# Altium footprint library Michel.PcbLib: 49 footprints (part 2 of 4)
Each footprint in its own frame and in the unit in brackets; x right, y up, seen from the top. Pads: shape width x height; smd on the part's side, far side on the other; paste and mask are expansions set on the pad; w line width, h text height; cw(c..) or ccw(c..) is an arc to the next point about the centre after c.
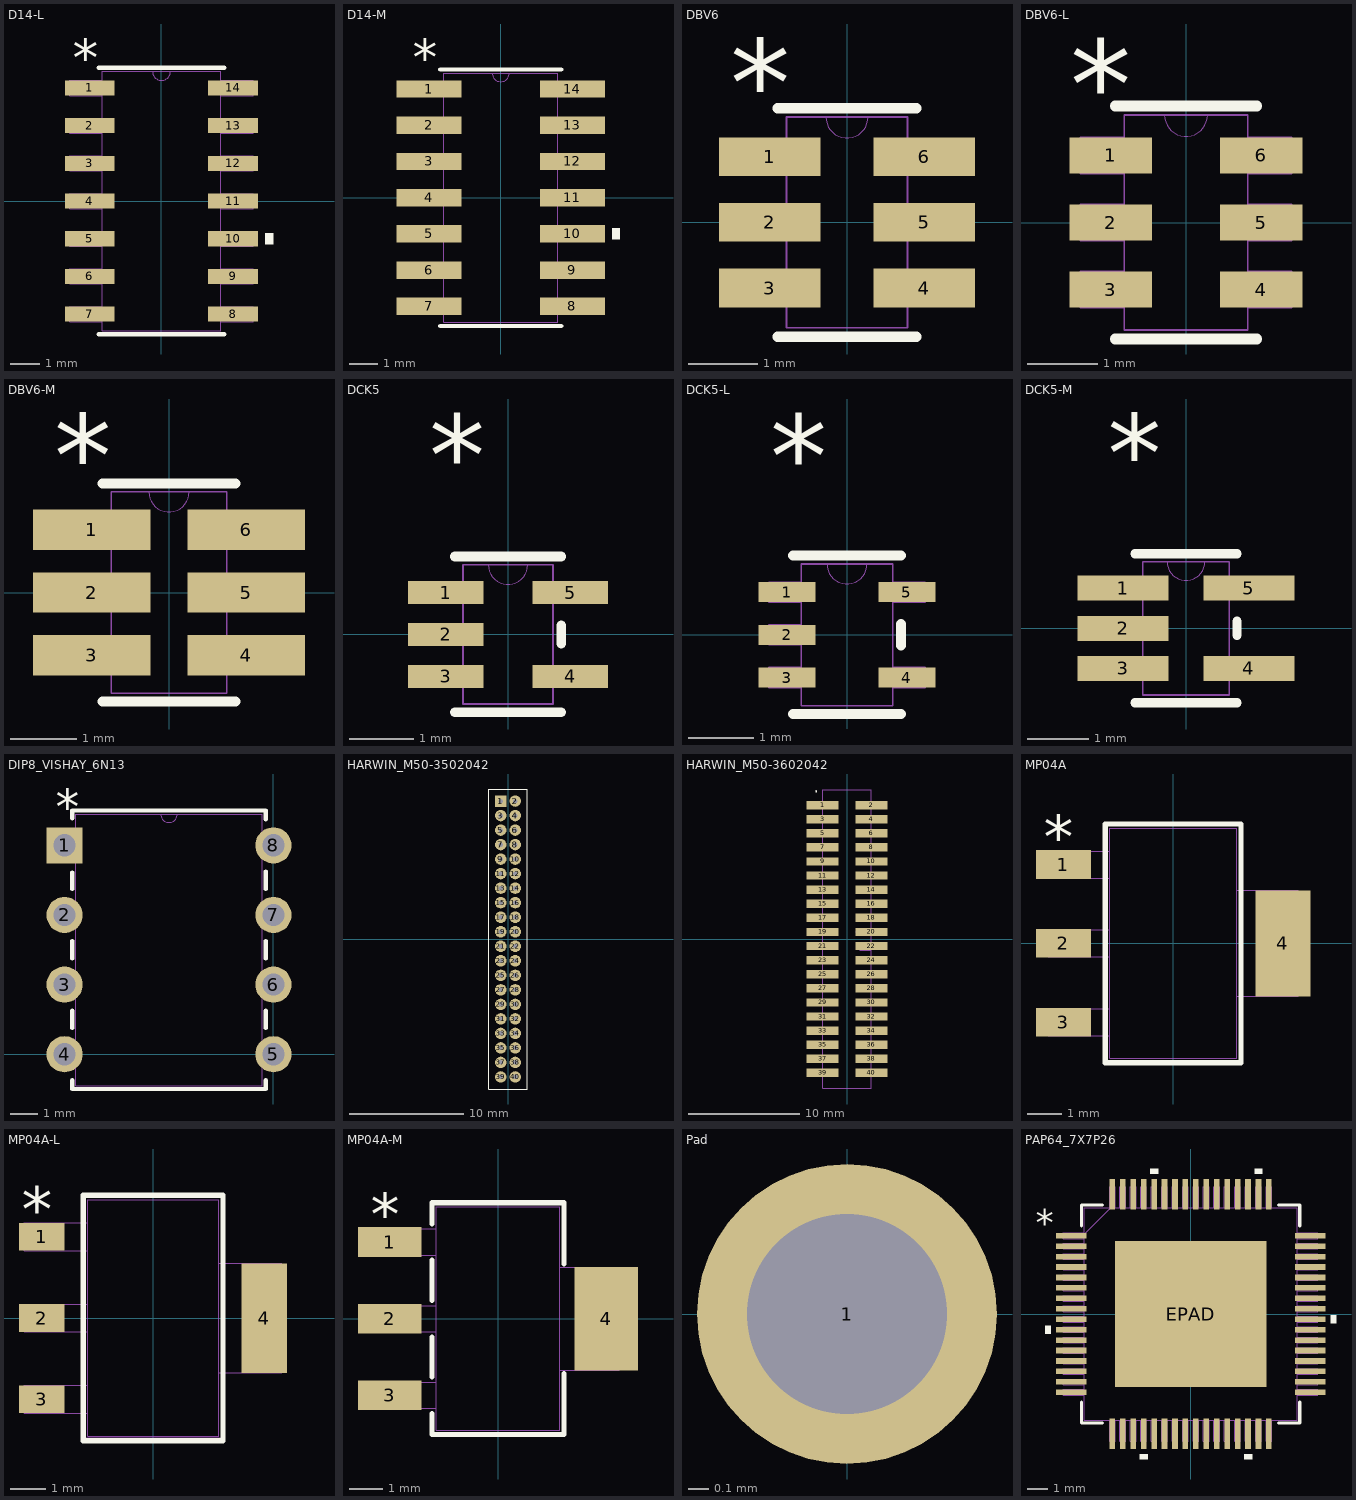
[diagram p1: the footprints below, top view; thin cyan lines are the x and y axes]

## D14-L [mil]
pads (14):
  rect 66x20 smd paste+0 mask+0: 1(-95,150) 2(-95,100) 3(-95,50) 4(-95,0) 5(-95,-50) 6(-95,-100) 7(-95,-150) 8(95,-150) 9(95,-100) 10(95,-50) 11(95,0) 12(95,50) 13(95,100) 14(95,150)
Top Overlay:
  region: 138,-42.5 148,-42.5 148,-57.5 138,-57.5
  lines w6: -83.5,-177 83.5,-177 ; -83.5,177 83.5,177
  text "*" at -117.5,165 h50
Mechanical 13:
  lines w0: -12,172 ccw(c0,172) 12,172
  lines w1: -122,-160 -78.5,-160 -78.5,-140 -122,-140 -122,-160 ; -122,-110 -78.5,-110 -78.5,-90 -122,-90 -122,-110 ; -122,-60 -78.5,-60 -78.5,-40 -122,-40 -122,-60 ; -122,-10 -78.5,-10 -78.5,10 -122,10 -122,-10 ; -122,40 -78.5,40 -78.5,60 -122,60 -122,40 ; -122,90 -78.5,90 -78.5,110 -122,110 -122,90 ; -122,140 -78.5,140 -78.5,160 -122,160 -122,140 ; -78.5,-172 -78.5,172 78.5,172 78.5,-172 -78.5,-172 ; 78.5,-160 122,-160 122,-140 78.5,-140 78.5,-160 ; 78.5,-110 122,-110 122,-90 78.5,-90 78.5,-110 ; 78.5,-60 122,-60 122,-40 78.5,-40 78.5,-60 ; 78.5,-10 122,-10 122,10 78.5,10 78.5,-10 ; 78.5,40 122,40 122,60 78.5,60 78.5,40 ; 78.5,90 122,90 122,110 78.5,110 78.5,90 ; 78.5,140 122,140 122,160 78.5,160 78.5,140
  text "*" at -76,119 h50
3D body: height 10, standoff 0, extent 0,0 10,10

## D14-M [mil]
pads (14):
  rect 90x24 smd paste+0 mask+0: 1(-99,150) 2(-99,100) 3(-99,50) 4(-99,0) 5(-99,-50) 6(-99,-100) 7(-99,-150) 8(99,-150) 9(99,-100) 10(99,-50) 11(99,0) 12(99,50) 13(99,100) 14(99,150)
Top Overlay:
  region: 154,-42.5 164,-42.5 164,-57.5 154,-57.5
  lines w6: -83.5,-177 83.5,-177 ; -83.5,177 83.5,177
  text "*" at -121.5,169 h50
Mechanical 13:
  lines w0: -12,172 ccw(c0,172) 12,172
  lines w1: -122,-160 -78.5,-160 -78.5,-140 -122,-140 -122,-160 ; -122,-110 -78.5,-110 -78.5,-90 -122,-90 -122,-110 ; -122,-60 -78.5,-60 -78.5,-40 -122,-40 -122,-60 ; -122,-10 -78.5,-10 -78.5,10 -122,10 -122,-10 ; -122,40 -78.5,40 -78.5,60 -122,60 -122,40 ; -122,90 -78.5,90 -78.5,110 -122,110 -122,90 ; -122,140 -78.5,140 -78.5,160 -122,160 -122,140 ; -78.5,-172 -78.5,172 78.5,172 78.5,-172 -78.5,-172 ; 78.5,-160 122,-160 122,-140 78.5,-140 78.5,-160 ; 78.5,-110 122,-110 122,-90 78.5,-90 78.5,-110 ; 78.5,-60 122,-60 122,-40 78.5,-40 78.5,-60 ; 78.5,-10 122,-10 122,10 78.5,10 78.5,-10 ; 78.5,40 122,40 122,60 78.5,60 78.5,40 ; 78.5,90 122,90 122,110 78.5,110 78.5,90 ; 78.5,140 122,140 122,160 78.5,160 78.5,140
  text "*" at -76,119 h50
3D body: height 10, standoff 0, extent 0,0 10,10

## DBV6 [mil]
pads (6):
  rect 58x22 smd paste+0 mask+0: 1(-44,37.4) 2(-44,0) 3(-44,-37.4) 4(44,-37.4) 5(44,0) 6(44,37.4)
Top Overlay:
  lines w6: -39.5,-65 39.5,-65 ; -39.5,65 39.5,65
  text "*" at -66.5,54.4 h50
Mechanical 13:
  lines w0: -12,60 ccw(c0,60) 12,60
  lines w1: -59,-47.4 -59,-27.4 -34.5,-27.4 -34.5,-47.4 -59,-47.4 ; -59,-10 -59,10 -34.5,10 -34.5,-10 -59,-10 ; -59,27.4 -59,47.4 -34.5,47.4 -34.5,27.4 -59,27.4 ; -34.5,-60 34.5,-60 34.5,60 -34.5,60 -34.5,-60 ; 34.5,-47.4 34.5,-27.4 59,-27.4 59,-47.4 34.5,-47.4 ; 34.5,-10 34.5,10 59,10 59,-10 34.5,-10 ; 34.5,27.4 34.5,47.4 59,47.4 59,27.4 34.5,27.4
  text "*" at -32,7 h50
3D body: height 10, standoff 0, extent 0,0 10,10

## DBV6-L [mil]
pads (6):
  rect 46x20 smd paste+0 mask+0: 1(-42,37.4) 2(-42,0) 3(-42,-37.4) 4(42,-37.4) 5(42,0) 6(42,37.4)
Top Overlay:
  lines w6: -39.5,-65 39.5,-65 ; -39.5,65 39.5,65
  text "*" at -64.5,52.4 h50
Mechanical 13:
  lines w0: -12,60 ccw(c0,60) 12,60
  lines w1: -59,-47.4 -34.5,-47.4 -34.5,-27.4 -59,-27.4 -59,-47.4 ; -59,-10 -34.5,-10 -34.5,10 -59,10 -59,-10 ; -59,27.4 -34.5,27.4 -34.5,47.4 -59,47.4 -59,27.4 ; -34.5,-60 -34.5,60 34.5,60 34.5,-60 -34.5,-60 ; 34.5,-47.4 59,-47.4 59,-27.4 34.5,-27.4 34.5,-47.4 ; 34.5,-10 59,-10 59,10 34.5,10 34.5,-10 ; 34.5,27.4 59,27.4 59,47.4 34.5,47.4 34.5,27.4
  text "*" at -32,7 h50
3D body: height 10, standoff 0, extent 0,0 10,10

## DBV6-M [mil]
pads (6):
  rect 70x24 smd paste+0 mask+0: 1(-46,37.4) 2(-46,0) 3(-46,-37.4) 4(46,-37.4) 5(46,0) 6(46,37.4)
Top Overlay:
  lines w6: -39.5,-65 39.5,-65 ; -39.5,65 39.5,65
  text "*" at -68.5,56.4 h50
Mechanical 13:
  lines w0: -12,60 ccw(c0,60) 12,60
  lines w1: -59,-47.4 -59,-27.4 -34.5,-27.4 -34.5,-47.4 -59,-47.4 ; -59,-10 -59,10 -34.5,10 -34.5,-10 -59,-10 ; -59,27.4 -59,47.4 -34.5,47.4 -34.5,27.4 -59,27.4 ; -34.5,-60 34.5,-60 34.5,60 -34.5,60 -34.5,-60 ; 34.5,-47.4 34.5,-27.4 59,-27.4 59,-47.4 34.5,-47.4 ; 34.5,-10 34.5,10 59,10 59,-10 34.5,-10 ; 34.5,27.4 34.5,47.4 59,47.4 59,27.4 34.5,27.4
  text "*" at -32,7 h50
3D body: height 10, standoff 0, extent 0,0 10,10

## DCK5 [mil]
pads (5):
  rect 46x14 smd paste+0 mask+0: 1(-38,25.59) 2(-38,0) 3(-38,-25.59) 4(38,-25.59) 5(38,25.59)
Top Overlay:
  lines w6: -32.5,-47.5 32.5,-47.5 ; -32.5,47.5 32.5,47.5 ; 32.5,-5.49 32.5,5.49
  text "*" at -48,84.59 h50
Mechanical 13:
  lines w0: -12,42.5 ccw(c0,42.5) 12,42.5
  lines w1: -47,-31.59 -47,-19.59 -27.5,-19.59 -27.5,-31.59 -47,-31.59 ; -47,-6 -47,6 -27.5,6 -27.5,-6 -47,-6 ; -47,19.59 -47,31.59 -27.5,31.59 -27.5,19.59 -47,19.59 ; -27.5,-42.5 27.5,-42.5 27.5,42.5 -27.5,42.5 -27.5,-42.5 ; 27.5,-31.59 27.5,-19.59 47,-19.59 47,-31.59 27.5,-31.59 ; 27.5,19.59 27.5,31.59 47,31.59 47,19.59 27.5,19.59
  text "*" at -17.5,46.59 h50
3D body: height 10, standoff 0, extent 0,0 10,10

## DCK5-L [mil]
pads (5):
  rect 34x12 smd paste+0 mask+0: 1(-36,25.59) 2(-36,0) 3(-36,-25.59) 4(36,-25.59) 5(36,25.59)
Top Overlay:
  lines w6: -32.5,-47.5 32.5,-47.5 ; -32.5,47.5 32.5,47.5 ; 32.5,-6.49 32.5,6.49
  text "*" at -46,82.59 h50
Mechanical 13:
  lines w0: -12,42.5 ccw(c0,42.5) 12,42.5
  lines w1: -47,-31.59 -47,-19.59 -27.5,-19.59 -27.5,-31.59 -47,-31.59 ; -47,-6 -47,6 -27.5,6 -27.5,-6 -47,-6 ; -47,19.59 -47,31.59 -27.5,31.59 -27.5,19.59 -47,19.59 ; -27.5,-42.5 27.5,-42.5 27.5,42.5 -27.5,42.5 -27.5,-42.5 ; 27.5,-31.59 27.5,-19.59 47,-19.59 47,-31.59 27.5,-31.59 ; 27.5,19.59 27.5,31.59 47,31.59 47,19.59 27.5,19.59
  text "*" at -17.5,44.59 h50
3D body: height 10, standoff 0, extent 0,0 10,10

## DCK5-M [mil]
pads (5):
  rect 58x16 smd paste+0 mask+0: 1(-40,25.59) 2(-40,0) 3(-40,-25.59) 4(40,-25.59) 5(40,25.59)
Top Overlay:
  lines w6: -32.5,-47.5 32.5,-47.5 ; -32.5,47.5 32.5,47.5 ; 32.5,-4.49 32.5,4.49
  text "*" at -50,86.59 h50
Mechanical 13:
  lines w0: -12,42.5 ccw(c0,42.5) 12,42.5
  lines w1: -47,-31.59 -47,-19.59 -27.5,-19.59 -27.5,-31.59 -47,-31.59 ; -47,-6 -47,6 -27.5,6 -27.5,-6 -47,-6 ; -47,19.59 -47,31.59 -27.5,31.59 -27.5,19.59 -47,19.59 ; -27.5,-42.5 27.5,-42.5 27.5,42.5 -27.5,42.5 -27.5,-42.5 ; 27.5,-31.59 27.5,-19.59 47,-19.59 47,-31.59 27.5,-31.59 ; 27.5,19.59 27.5,31.59 47,31.59 47,19.59 27.5,19.59
  text "*" at -17.5,48.59 h50
3D body: height 10, standoff 0, extent 0,0 10,10

## DIP8_VISHAY_6N13 [mil]
pads (8):
  rect 52x52 / inner round 60 / far side rect 52x52 hole 32 paste+0 mask+0: 1(-300,300)
  round 52 / inner round 60 / far side round 52 hole 32 paste+0 mask+0: 2(-300,200) 3(-300,100) 4(-300,0) 5(0,0) 6(0,100) 7(0,200) 8(0,300)
Top Overlay:
  lines w6: -289,-37.52 -289,-50 -11,-50 -11,-37.52 ; -289,37.52 -289,62.48 ; -289,137.52 -289,162.48 ; -289,237.52 -289,260.9 ; -289,339.1 -289,350 -11,350 -11,337.52 ; -11,37.52 -11,62.48 ; -11,137.52 -11,162.48 ; -11,237.52 -11,262.48
  text "*" at -312.5,331 h50
Mechanical 13:
  lines w0: -162,345 ccw(c-150,345) -138,345
  lines w1: -316,-16 -284,-16 -284,16 -316,16 -316,-16 ; -316,84 -284,84 -284,116 -316,116 -316,84 ; -316,184 -284,184 -284,216 -316,216 -316,184 ; -316,284 -284,284 -284,316 -316,316 -316,284 ; -284,-45 -284,345 -16,345 -16,-45 -284,-45 ; -16,-16 16,-16 16,16 -16,16 -16,-16 ; -16,84 16,84 16,116 -16,116 -16,84 ; -16,184 16,184 16,216 -16,216 -16,184 ; -16,284 16,284 16,316 -16,316 -16,284
  text "*" at -286.5,275 h50
3D body: height 10, standoff 0, extent 0,0 10,10

## HARWIN_M50-3502042 [mm]
pads (40):
  rect 1x1 hole 0.4: 1(-0.635,12.065)
  round 1 hole 0.4: 2(0.635,12.065) 3(-0.635,10.795) 4(0.635,10.795) 5(-0.635,9.525) 6(0.635,9.525) 7(-0.635,8.255) 8(0.635,8.255) 9(-0.635,6.985) 10(0.635,6.985) 11(-0.635,5.715) 12(0.635,5.715) 13(-0.635,4.445) 14(0.635,4.445) 15(-0.635,3.175) 16(0.635,3.175) 17(-0.635,1.905) 18(0.635,1.905) 19(-0.635,0.635) 20(0.635,0.635) 21(-0.635,-0.635) 22(0.635,-0.635) 23(-0.635,-1.905) 24(0.635,-1.905) 25(-0.635,-3.175) 26(0.635,-3.175) 27(-0.635,-4.445) 28(0.635,-4.445) 29(-0.635,-5.715) 30(0.635,-5.715) 31(-0.635,-6.985) 32(0.635,-6.985) 33(-0.635,-8.255) 34(0.635,-8.255) 35(-0.635,-9.525) 36(0.635,-9.525) 37(-0.635,-10.795) 38(0.635,-10.795) 39(-0.635,-12.065) 40(0.635,-12.065)
Top Overlay:
  lines w0.1: -1.7,-13.12 -1.7,13.12 1.7,13.12 1.7,-13.12 -1.7,-13.12

## HARWIN_M50-3602042 [mm]
height 2.4
pads (40):
  rect 2.9x0.75 smd: 1(-2.2,12.065) 2(2.2,12.065) 3(-2.2,10.795) 4(2.2,10.795) 5(-2.2,9.525) 6(2.2,9.525) 7(-2.2,8.255) 8(2.2,8.255) 9(-2.2,6.985) 10(2.2,6.985) 11(-2.2,5.715) 12(2.2,5.715) 13(-2.2,4.445) 14(2.2,4.445) 15(-2.2,3.175) 16(2.2,3.175) 17(-2.2,1.905) 18(2.2,1.905) 19(-2.2,0.635) 20(2.2,0.635) 21(-2.2,-0.635) 22(2.2,-0.635) 23(-2.2,-1.905) 24(2.2,-1.905) 25(-2.2,-3.175) 26(2.2,-3.175) 27(-2.2,-4.445) 28(2.2,-4.445) 29(-2.2,-5.715) 30(2.2,-5.715) 31(-2.2,-6.985) 32(2.2,-6.985) 33(-2.2,-8.255) 34(2.2,-8.255) 35(-2.2,-9.525) 36(2.2,-9.525) 37(-2.2,-10.795) 38(2.2,-10.795) 39(-2.2,-12.065) 40(2.2,-12.065)
Top Overlay:
  circle w0.1: c-2.787,13.303 r0.05
Mechanical 13:
  lines w0.1: -2.2,-13.44 -2.2,13.44 2.2,13.44 2.2,-13.44 -2.2,-13.44
Mechanical 15:
  lines w0.1: 0.77,0.635 1.77,0.635 ; 0.897,0.762 1.897,0.762 ; 1.151,-1.016 2.151,-1.016
3D body: height 2.4, standoff 0, extent -3.15,-13.44 3.15,13.44

## MP04A [mil]
pads (4):
  rect 63x33 smd paste+0 mask+0: 1(-126,90.55) 2(-126,0) 3(-126,-90.55)
  rect 63x122 smd paste+0 mask+0: 4(126,0)
Top Overlay:
  lines w6: -78,-137 78,-137 78,137 -78,137 -78,-137
  text "*" at -148.5,97.05 h50
Mechanical 13:
  lines w1: -143.5,-106.05 -143.5,-75.05 -73,-75.05 -73,-106.05 -143.5,-106.05 ; -143.5,-15.5 -143.5,15.5 -73,15.5 -73,-15.5 -143.5,-15.5 ; -143.5,75.05 -143.5,106.05 -73,106.05 -73,75.05 -143.5,75.05 ; -73,-132 73,-132 73,132 -73,132 -73,-132 ; 73,-61 73,61 143.5,61 143.5,-61 73,-61
  text "*" at -75.5,77.05 h50
3D body: height 10, standoff 0, extent 0,0 10,10

## MP04A-L [mil]
pads (4):
  rect 51x31 smd paste+0 mask+0: 1(-124,90.55) 2(-124,0) 3(-124,-90.55)
  rect 51x122 smd paste+0 mask+0: 4(124,0)
Top Overlay:
  lines w6: -78,-137 78,-137 78,137 -78,137 -78,-137
  text "*" at -146.5,96.05 h50
Mechanical 13:
  lines w1: -143.5,-106.05 -143.5,-75.05 -73,-75.05 -73,-106.05 -143.5,-106.05 ; -143.5,-15.5 -143.5,15.5 -73,15.5 -73,-15.5 -143.5,-15.5 ; -143.5,75.05 -143.5,106.05 -73,106.05 -73,75.05 -143.5,75.05 ; -73,-132 73,-132 73,132 -73,132 -73,-132 ; 73,-61 73,61 143.5,61 143.5,-61 73,-61
  text "*" at -75.5,76.05 h50
Mechanical 15:
  lines w6: -77,-136 77,-136
3D body: height 10, standoff 0, extent 0,0 10,10

## MP04A-M [mil]
pads (4):
  rect 75x35 smd paste+0 mask+0: 1(-128,90.55) 2(-128,0) 3(-128,-90.55)
  rect 75x122 smd paste+0 mask+0: 4(128,0)
Top Overlay:
  lines w6: -78,-111.97 -78,-137 78,-137 78,-64.92 ; -78,-69.13 -78,-21.42 ; -78,21.42 -78,69.13 ; -78,111.97 -78,137 78,137 78,64.92
  text "*" at -150.5,98.05 h50
Mechanical 13:
  lines w1: -143.5,-106.05 -73,-106.05 -73,-75.05 -143.5,-75.05 -143.5,-106.05 ; -143.5,-15.5 -73,-15.5 -73,15.5 -143.5,15.5 -143.5,-15.5 ; -143.5,75.05 -73,75.05 -73,106.05 -143.5,106.05 -143.5,75.05 ; -73,-132 -73,132 73,132 73,-132 -73,-132 ; 73,-61 143.5,-61 143.5,61 73,61 73,-61
  text "*" at -75.5,78.05 h50
3D body: height 10, standoff 0, extent 0,0 10,10

## Pad [mm]
pads (1):
  round 1.5 hole 1: 1(0,0)

## PAP64_7X7P26 [mm]
pads (65):
  rect 1.461x0.27 smd paste+0 mask+0: 1(-5.725,3.75) 2(-5.725,3.25) 3(-5.725,2.75) 4(-5.725,2.25) 5(-5.725,1.75) 6(-5.725,1.25) 7(-5.725,0.75) 8(-5.725,0.25) 9(-5.725,-0.25) 10(-5.725,-0.75) 11(-5.725,-1.25) 12(-5.725,-1.75) 13(-5.725,-2.25) 14(-5.725,-2.75) 15(-5.725,-3.25) 16(-5.725,-3.75) 33(5.725,-3.75) 34(5.725,-3.25) 35(5.725,-2.75) 36(5.725,-2.25) 37(5.725,-1.75) 38(5.725,-1.25) 39(5.725,-0.75) 40(5.725,-0.25) 41(5.725,0.25) 42(5.725,0.75) 43(5.725,1.25) 44(5.725,1.75) 45(5.725,2.25) 46(5.725,2.75) 47(5.725,3.25) 48(5.725,3.75)
  rect 0.27x1.461 smd paste+0 mask+0: 17(-3.75,-5.725) 18(-3.25,-5.725) 19(-2.75,-5.725) 20(-2.25,-5.725) 21(-1.75,-5.725) 22(-1.25,-5.725) 23(-0.75,-5.725) 24(-0.25,-5.725) 25(0.25,-5.725) 26(0.75,-5.725) 27(1.25,-5.725) 28(1.75,-5.725) 29(2.25,-5.725) 30(2.75,-5.725) 31(3.25,-5.725) 32(3.75,-5.725) 49(3.75,5.725) 50(3.25,5.725) 51(2.75,5.725) 52(2.25,5.725) 53(1.75,5.725) 54(1.25,5.725) 55(0.75,5.725) 56(0.25,5.725) 57(-0.25,5.725) 58(-0.75,5.725) 59(-1.25,5.725) 60(-1.75,5.725) 61(-2.25,5.725) 62(-2.75,5.725) 63(-3.25,5.725) 64(-3.75,5.725)
  rect 7.26x7 smd paste-3.617 mask-3.619: EPAD(0,0)
Top Overlay:
  region: -6.71,-0.56 -6.964,-0.56 -6.964,-0.941 -6.71,-0.941
  region: -2.06,-6.71 -2.441,-6.71 -2.441,-6.964 -2.06,-6.964
  region: 2.94,-6.71 2.559,-6.71 2.559,-6.964 2.94,-6.964
  region: 6.71,-0.059 6.964,-0.059 6.964,-0.44 6.71,-0.44
  region: 3.441,6.71 3.06,6.71 3.06,6.964 3.441,6.964
  region: -1.559,6.71 -1.94,6.71 -1.94,6.964 -1.559,6.964
  lines w0.152: -5.227,-4.218 -5.227,-5.227 -4.218,-5.227 ; -5.227,4.218 -5.227,5.227 -4.218,5.227 ; 4.218,-5.227 5.227,-5.227 5.227,-4.218 ; 4.218,5.227 5.227,5.227 5.227,4.218
  text "*" at -7.408,3.746 h1.27
Top Paste:
  drawing of 90 lines, arcs and shapes, not listed
Top Solder:
  region: -3.694,2.956 -3.694,3.564 3.694,3.564 3.694,2.956
  region: -3.694,2.168 -3.694,2.556 3.694,2.556 3.694,2.168
  region: -3.694,1.381 -3.694,1.769 3.694,1.769 3.694,1.381
  region: -3.694,0.594 -3.694,0.981 3.694,0.981 3.694,0.594
  region: -3.694,-0.194 -3.694,0.194 3.694,0.194 3.694,-0.194
  region: -3.694,-0.981 -3.694,-0.594 3.694,-0.594 3.694,-0.981
  region: -3.694,-1.769 -3.694,-1.381 3.694,-1.381 3.694,-1.769
  region: -3.694,-2.556 -3.694,-2.168 3.694,-2.168 3.694,-2.556
  region: -3.694,-3.564 -3.694,-2.956 3.694,-2.956 3.694,-3.564
  region: -3.694,-3.564 -3.694,3.564 -3.35,3.564 -3.35,-3.564
  region: -2.562,-3.564 -2.562,3.564 -2.95,3.564 -2.95,-3.564
  region: -1.775,-3.564 -1.775,3.564 -2.162,3.564 -2.162,-3.564
  region: -0.987,-3.564 -0.987,3.564 -1.375,3.564 -1.375,-3.564
  region: -0.2,-3.564 -0.2,3.564 -0.587,3.564 -0.587,-3.564
  region: 0.587,-3.564 0.587,3.564 0.2,3.564 0.2,-3.564
  region: 1.375,-3.564 1.375,3.564 0.987,3.564 0.987,-3.564
  region: 2.162,-3.564 2.162,3.564 1.775,3.564 1.775,-3.564
  region: 2.95,-3.564 2.95,3.564 2.562,3.564 2.562,-3.564
  region: 3.35,-3.564 3.35,3.564 3.694,3.564 3.694,-3.564
Mechanical 13:
  drawing of 261 lines, arcs and shapes, not listed
  text "*" at -5.036,3.365 h1.27
Mechanical 16:
  circle w0.127: c-3.15,-2.756 r0.191
  circle w0.127: c-3.15,-1.968 r0.191
  circle w0.127: c-3.15,-1.181 r0.191
  circle w0.127: c-3.15,-0.394 r0.191
  circle w0.127: c-3.15,0.394 r0.191
  circle w0.127: c-3.15,1.181 r0.191
  circle w0.127: c-3.15,1.968 r0.191
  circle w0.127: c-3.15,2.756 r0.191
  circle w0.127: c-2.362,-2.756 r0.191
  circle w0.127: c-2.362,-1.968 r0.191
  circle w0.127: c-2.362,-1.181 r0.191
  circle w0.127: c-2.362,-0.394 r0.191
  circle w0.127: c-2.362,0.394 r0.191
  circle w0.127: c-2.362,1.181 r0.191
  circle w0.127: c-2.362,1.968 r0.191
  circle w0.127: c-2.362,2.756 r0.191
  circle w0.127: c-1.575,-2.756 r0.191
  circle w0.127: c-1.575,-1.968 r0.191
  circle w0.127: c-1.575,-1.181 r0.191
  circle w0.127: c-1.575,-0.394 r0.191
  circle w0.127: c-1.575,0.394 r0.191
  circle w0.127: c-1.575,1.181 r0.191
  circle w0.127: c-1.575,1.968 r0.191
  circle w0.127: c-1.575,2.756 r0.191
  circle w0.127: c-0.787,-2.756 r0.191
  circle w0.127: c-0.787,-1.968 r0.191
  circle w0.127: c-0.787,-1.181 r0.191
  circle w0.127: c-0.787,-0.394 r0.191
  circle w0.127: c-0.787,0.394 r0.191
  circle w0.127: c-0.787,1.181 r0.191
  circle w0.127: c-0.787,1.968 r0.191
  circle w0.127: c-0.787,2.756 r0.191
  circle w0.127: c0,-2.756 r0.191
  circle w0.127: c0,-1.968 r0.191
  circle w0.127: c0,-1.181 r0.191
  circle w0.127: c0,-0.394 r0.191
  circle w0.127: c0,0.394 r0.191
  circle w0.127: c0,1.181 r0.191
  circle w0.127: c0,1.968 r0.191
  circle w0.127: c0,2.756 r0.191
  circle w0.127: c0.787,-2.756 r0.191
  circle w0.127: c0.787,-1.968 r0.191
  circle w0.127: c0.787,-1.181 r0.191
  circle w0.127: c0.787,-0.394 r0.191
  circle w0.127: c0.787,0.394 r0.191
  circle w0.127: c0.787,1.181 r0.191
  circle w0.127: c0.787,1.968 r0.191
  circle w0.127: c0.787,2.756 r0.191
  circle w0.127: c1.575,-2.756 r0.191
  circle w0.127: c1.575,-1.968 r0.191
  circle w0.127: c1.575,-1.181 r0.191
  circle w0.127: c1.575,-0.394 r0.191
  circle w0.127: c1.575,0.394 r0.191
  circle w0.127: c1.575,1.181 r0.191
  circle w0.127: c1.575,1.968 r0.191
  circle w0.127: c1.575,2.756 r0.191
  circle w0.127: c2.362,-2.756 r0.191
  circle w0.127: c2.362,-1.968 r0.191
  circle w0.127: c2.362,-1.181 r0.191
  circle w0.127: c2.362,-0.394 r0.191
  circle w0.127: c2.362,0.394 r0.191
  circle w0.127: c2.362,1.181 r0.191
  circle w0.127: c2.362,1.968 r0.191
  circle w0.127: c2.362,2.756 r0.191
  circle w0.127: c3.15,-2.756 r0.191
  circle w0.127: c3.15,-1.968 r0.191
  circle w0.127: c3.15,-1.181 r0.191
  circle w0.127: c3.15,-0.394 r0.191
  circle w0.127: c3.15,0.394 r0.191
  circle w0.127: c3.15,1.181 r0.191
  circle w0.127: c3.15,1.968 r0.191
  circle w0.127: c3.15,2.756 r0.191
3D body: height 0.25, standoff 0, extent 0,0 0.254,0.254